# Altium footprint library DDC6.PcbLib: 1 footprints
Each footprint in its own frame and in the unit in brackets; x right, y up, seen from the top. Pads: shape width x height; smd on the part's side, far side on the other; paste and mask are expansions set on the pad; w line width, h text height; cw(c..) or ccw(c..) is an arc to the next point about the centre after c.
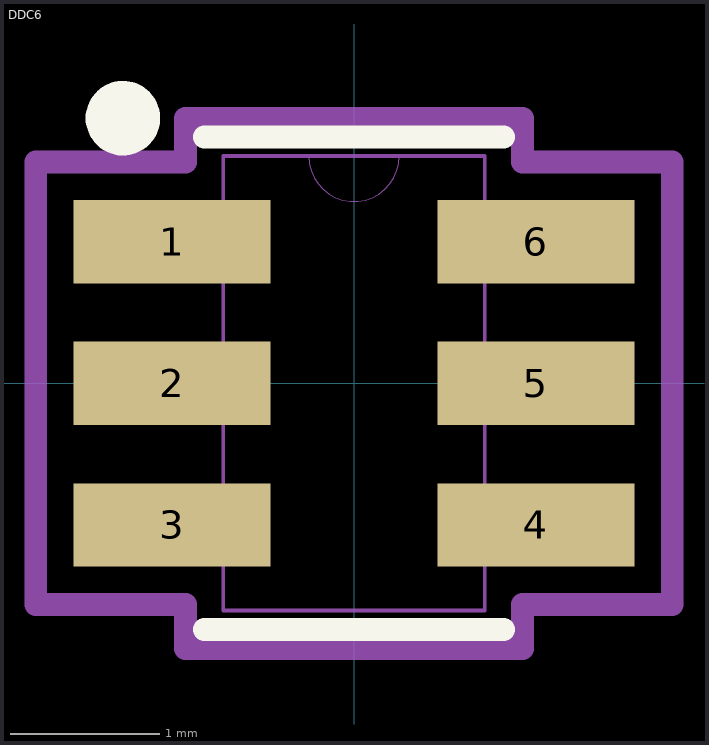
[diagram p0: the footprint, top view; thin cyan lines are the x and y axes]

## DDC6 [mil]
pads (6):
  rect 52x22 smd paste+0 mask+0: 1(-48,37.4) 2(-48,0) 3(-48,-37.4) 4(48,-37.4) 5(48,0) 6(48,37.4)
Top Overlay:
  circle w9.84: c-61,70 r4.92
  lines w6: -39.5,-65 39.5,-65 ; -39.5,65 39.5,65
Mechanical 13:
  lines w0: -12,60 ccw(c0,60) 12,60
  lines w1: -60,-47.4 -34.5,-47.4 -34.5,-27.4 -60,-27.4 -60,-47.4 ; -60,-10 -34.5,-10 -34.5,10 -60,10 -60,-10 ; -60,27.4 -34.5,27.4 -34.5,47.4 -60,47.4 -60,27.4 ; -34.5,-60 -34.5,60 34.5,60 34.5,-60 -34.5,-60 ; 34.5,-47.4 60,-47.4 60,-27.4 34.5,-27.4 34.5,-47.4 ; 34.5,-10 60,-10 60,10 34.5,10 34.5,-10 ; 34.5,27.4 60,27.4 60,47.4 34.5,47.4 34.5,27.4
Mechanical 15:
  lines w6: -84,-58.4 -44.5,-58.4 -44.5,-70 44.5,-70 44.5,-58.4 84,-58.4 84,58.4 44.5,58.4 44.5,70 -44.5,70 -44.5,58.4 -84,58.4 -84,-58.4
3D body: height 10, standoff 0, extent 0,0 10,10
3D body "DDC0006A.stp": height 38.19, standoff 0, extent -55.11,-57.08 55.12,57.09